# Altium footprint library VT6212 Chipset 2.PcbLib: 1 footprints
Each footprint in its own frame and in the unit in brackets; x right, y up, seen from the top. Pads: shape width x height; smd on the part's side, far side on the other; paste and mask are expansions set on the pad; w line width, h text height; cw(c..) or ccw(c..) is an arc to the next point about the centre after c.
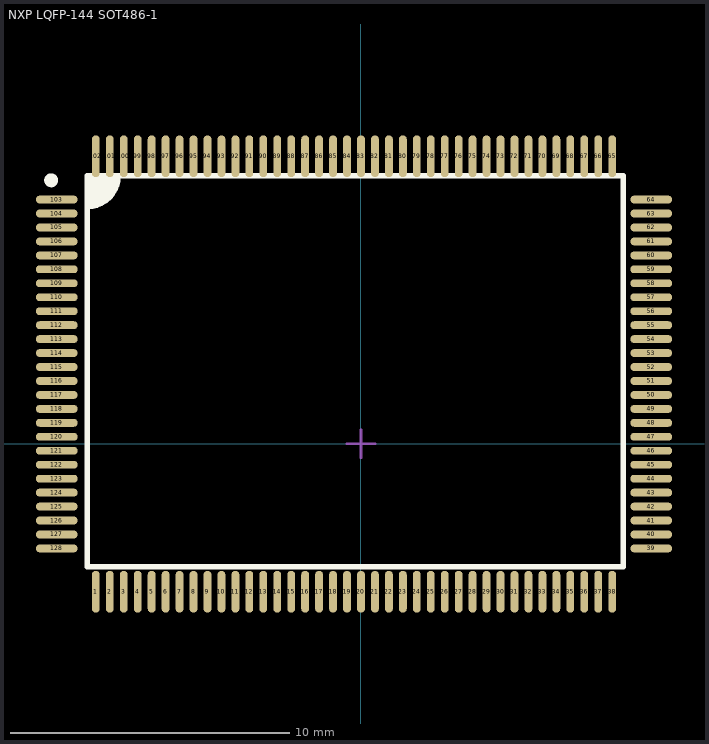
[diagram p0: the footprint, top view; thin cyan lines are the x and y axes]

## NXP LQFP-144 SOT486-1 [mm] "TQFP, 144-Leads, Body 20.00x20.00mm, Pitch 0.50mm, IPC Medium Density"
height 1.6
pads (128):
  oval 0.28x1.5 smd: 1(-9.5,-5.3) 2(-9,-5.3) 3(-8.5,-5.3) 4(-8,-5.3) 5(-7.5,-5.3) 6(-7,-5.3) 7(-6.5,-5.3) 8(-6,-5.3) 9(-5.5,-5.3) 10(-5,-5.3) 11(-4.5,-5.3) 12(-4,-5.3) 13(-3.5,-5.3) 14(-3,-5.3) 15(-2.5,-5.3) 16(-2,-5.3) 17(-1.5,-5.3) 18(-1,-5.3) 19(-0.5,-5.3) 20(0,-5.3) 21(0.5,-5.3) 22(1,-5.3) 23(1.5,-5.3) 24(2,-5.3) 25(2.5,-5.3) 26(3,-5.3) 27(3.5,-5.3) 28(4,-5.3) 29(4.5,-5.3) 30(5,-5.3) 31(5.5,-5.3) 32(6,-5.3) 33(6.5,-5.3) 34(7,-5.3) 35(7.5,-5.3) 36(8,-5.3) 37(8.5,-5.3) 38(9,-5.3) 65(9,10.3) 66(8.5,10.3) 67(8,10.3) 68(7.5,10.3) 69(7,10.3) 70(6.5,10.3) 71(6,10.3) 72(5.5,10.3) 73(5,10.3) 74(4.5,10.3) 75(4,10.3) 76(3.5,10.3) 77(3,10.3) 78(2.5,10.3) 79(2,10.3) 80(1.5,10.3) 81(1,10.3) 82(0.5,10.3) 83(0,10.3) 84(-0.5,10.3) 85(-1,10.3) 86(-1.5,10.3) 87(-2,10.3) 88(-2.5,10.3) 89(-3,10.3) 90(-3.5,10.3) 91(-4,10.3) 92(-4.5,10.3) 93(-5,10.3) 94(-5.5,10.3) 95(-6,10.3) 96(-6.5,10.3) 97(-7,10.3) 98(-7.5,10.3) 99(-8,10.3) 100(-8.5,10.3) 101(-9,10.3) 102(-9.5,10.3)
  oval 1.5x0.28 smd: 39(10.4,-3.75) 40(10.4,-3.25) 41(10.4,-2.75) 42(10.4,-2.25) 43(10.4,-1.75) 44(10.4,-1.25) 45(10.4,-0.75) 46(10.4,-0.25) 47(10.4,0.25) 48(10.4,0.75) 49(10.4,1.25) 50(10.4,1.75) 51(10.4,2.25) 52(10.4,2.75) 53(10.4,3.25) 54(10.4,3.75) 55(10.4,4.25) 56(10.4,4.75) 57(10.4,5.25) 58(10.4,5.75) 59(10.4,6.25) 60(10.4,6.75) 61(10.4,7.25) 62(10.4,7.75) 63(10.4,8.25) 64(10.4,8.75) 103(-10.9,8.75) 104(-10.9,8.25) 105(-10.9,7.75) 106(-10.9,7.25) 107(-10.9,6.75) 108(-10.9,6.25) 109(-10.9,5.75) 110(-10.9,5.25) 111(-10.9,4.75) 112(-10.9,4.25) 113(-10.9,3.75) 114(-10.9,3.25) 115(-10.9,2.75) 116(-10.9,2.25) 117(-10.9,1.75) 118(-10.9,1.25) 119(-10.9,0.75) 120(-10.9,0.25) 121(-10.9,-0.25) 122(-10.9,-0.75) 123(-10.9,-1.25) 124(-10.9,-1.75) 125(-10.9,-2.25) 126(-10.9,-2.75) 127(-10.9,-3.25) 128(-10.9,-3.75)
Top Overlay:
  circle w0.25: c-11.1,9.44 r0.125
  region: -8.7,9.6 -9.8,9.6 -9.8,8.5 -9.4,8.5 -8.7,9.2
  lines w0.2: -9.8,8.5 ccw(c-9.8,9.6) -8.7,9.6 ; -9.8,-4.4 -9.8,9.6 9.4,9.6 9.4,-4.4 -9.8,-4.4
Mechanical 15:
  lines w0.1: -0.5,0 0.5,0 ; 0,-0.5 0,0.5